# Altium footprint library REF.PcbLib: 1 footprints
Each footprint in its own frame and in the unit in brackets; x right, y up, seen from the top. Pads: shape width x height; smd on the part's side, far side on the other; paste and mask are expansions set on the pad; w line width, h text height; cw(c..) or ccw(c..) is an arc to the next point about the centre after c.
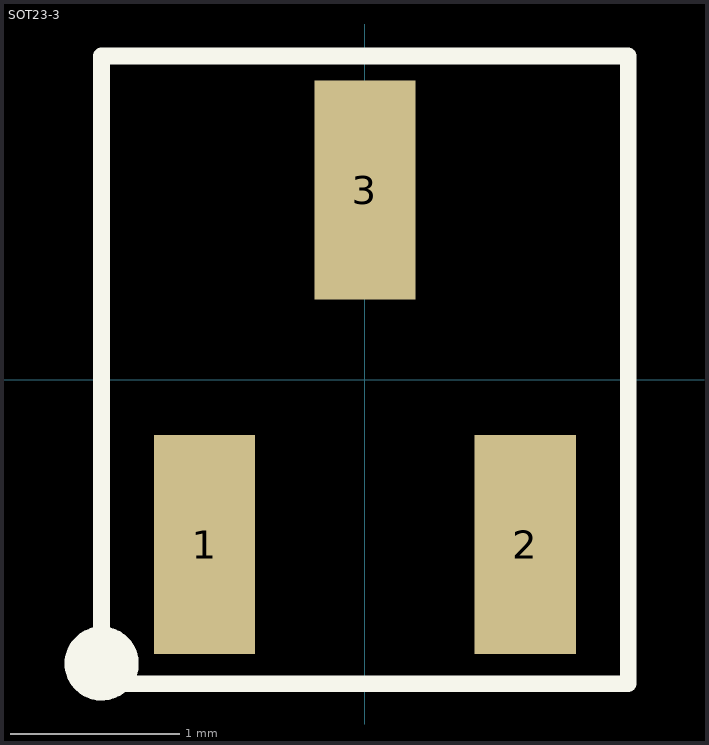
[diagram p0: the footprint, top view; thin cyan lines are the x and y axes]

## SOT23-3 [mm] "1.12H"
height 1.12
pads (3):
  rect 0.6x1.3 smd mask+0.05: 1(-0.95,-0.975) 2(0.95,-0.975) 3(0,1.125)
Top Overlay:
  circle w0.1: c-1.56,-1.68 r0.17
  rectangle: -1.56,-1.8 -1.39,-1.56
  rectangle: -1.68,-1.8 -1.56,-1.68
  rectangle: -1.68,-1.68 -1.56,-1.56
  rectangle: -1.56,-1.8 -1.39,-1.68
  lines w0.1: 1.56,1.92 -1.56,1.92 -1.56,-1.8 1.56,-1.8 1.56,1.92 ; 1.56,1.92 1.56,1.92